# EAGLE library part PSH02-06 (library #PaJa_konektory)
Konektory se zamkem - vidlice - 6pin
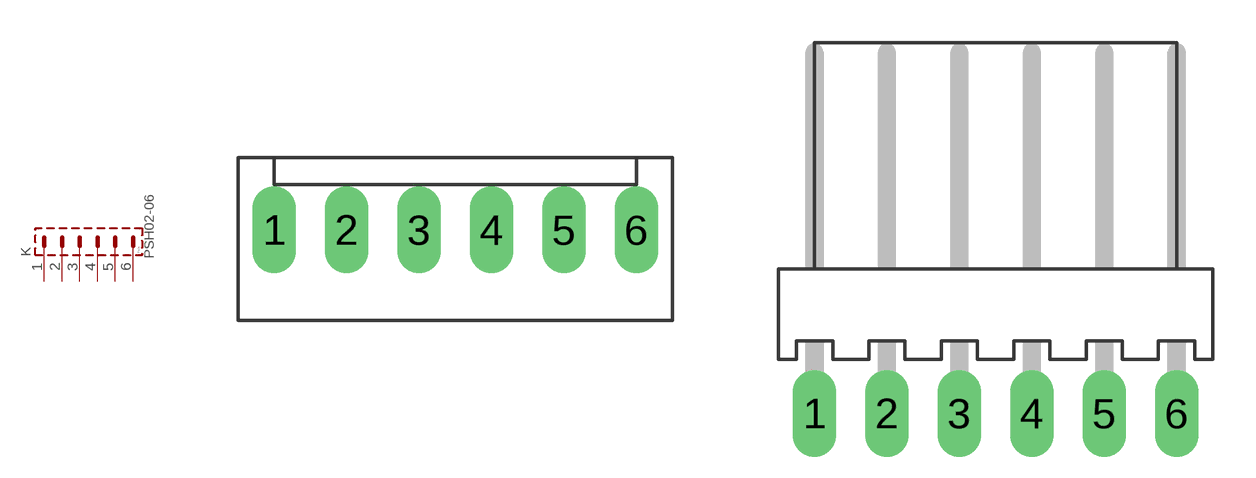
[diagram p9: symbol with the pads of PSH02-06P; footprints PSH02-06P, PSH02-06W]

Designator prefix K

## PSH02-06P  [PSH02-06P]
1  1  pas
2  2  pas
3  3  pas
4  4  pas
5  5  pas
6  6  pas

## PSH02-06W  [PSH02-06W]
Pads as for PSH02-06P

## Footprint PSH02-06P (pad centres in mm)
drill 1.016 pad 1.422 long: 1 -6.35,0; 2 -3.81,0; 3 -1.27,0; 4 1.27,0; 5 3.81,0; 6 6.35,0

## Footprint PSH02-06W (pad centres in mm)
drill 1.016 pad 1.422 long: 1 -6.35,0; 2 -3.81,0; 3 -1.27,0; 4 1.27,0; 5 3.81,0; 6 6.35,0